# Altium footprint library MF_Passives.PCBLIB: 20 footprints (part 2 of 2)
Each footprint in its own frame and in the unit in brackets; x right, y up, seen from the top. Pads: shape width x height; smd on the part's side, far side on the other; paste and mask are expansions set on the pad; w line width, h text height; cw(c..) or ccw(c..) is an arc to the next point about the centre after c.
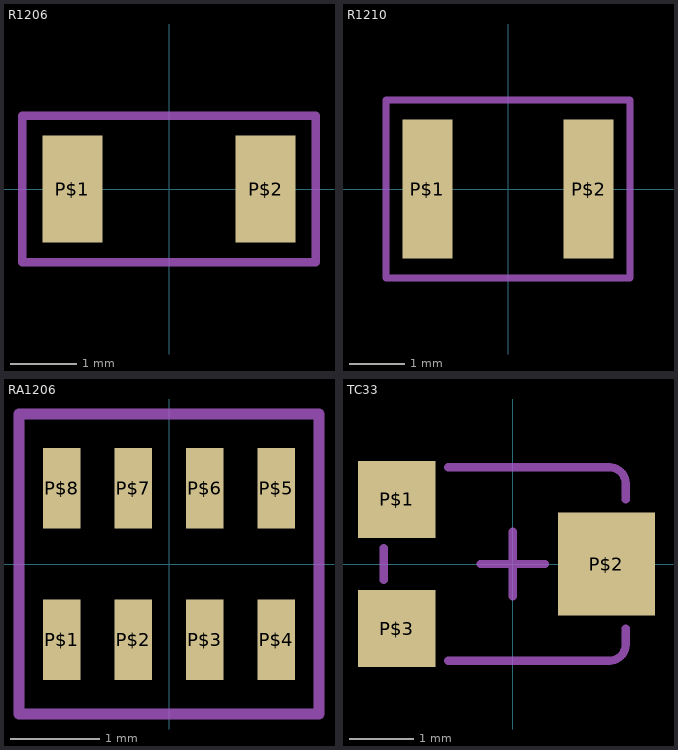
[diagram p1: the footprints below, top view; thin cyan lines are the x and y axes]

## R1206 [mm]
pads (2):
  rect 0.9x1.6 smd: P$1(-1.45,0) P$2(1.45,0)
Mechanical 22:
  lines w0.127: -2.2,-1.1 -2.2,1.1 2.2,1.1 2.2,-1.1 -2.2,-1.1

## R1210 [mm]
pads (2):
  rect 0.9x2.5 smd: P$1(-1.45,0) P$2(1.45,0)
Mechanical 22:
  lines w0.127: -2.2,-1.6 -2.2,1.6 2.2,1.6 2.2,-1.6 -2.2,-1.6

## RA1206 [mm]
pads (8):
  rect 0.42x0.9 smd: P$1(-1.2,-0.85) P$2(-0.4,-0.85) P$3(0.4,-0.85) P$4(1.2,-0.85) P$5(1.2,0.85) P$6(0.4,0.85) P$7(-0.4,0.85) P$8(-1.2,0.85)
Mechanical 22:
  lines w0.127: -1.68,-1.68 1.68,-1.68 1.68,0 1.68,1.68 -1.68,1.68 -1.68,0 -1.68,-1.68

## TC33 [mm]
pads (3):
  rect 1.2x1.2 smd: P$1(-1.8,1) P$3(-1.8,-1)
  rect 1.5x1.6 smd: P$2(1.45,0)
Mechanical 22:
  lines w0.127: -2,-0.25 -2,0.25 ; -1,-1.5 1.496,-1.5 ccw(c1.496,-1.246) 1.75,-1.246 1.75,-1 ; -1,1.5 1.496,1.5 cw(c1.496,1.246) 1.75,1.246 1.75,1 ; -0.5,0 0.5,0 ; 0,-0.5 0,0.5